# Altium footprint library Dr_lib .PcbLib: 38 footprints (part 2 of 3)
Each footprint in its own frame and in the unit in brackets; x right, y up, seen from the top. Pads: shape width x height; smd on the part's side, far side on the other; paste and mask are expansions set on the pad; w line width, h text height; cw(c..) or ccw(c..) is an arc to the next point about the centre after c.
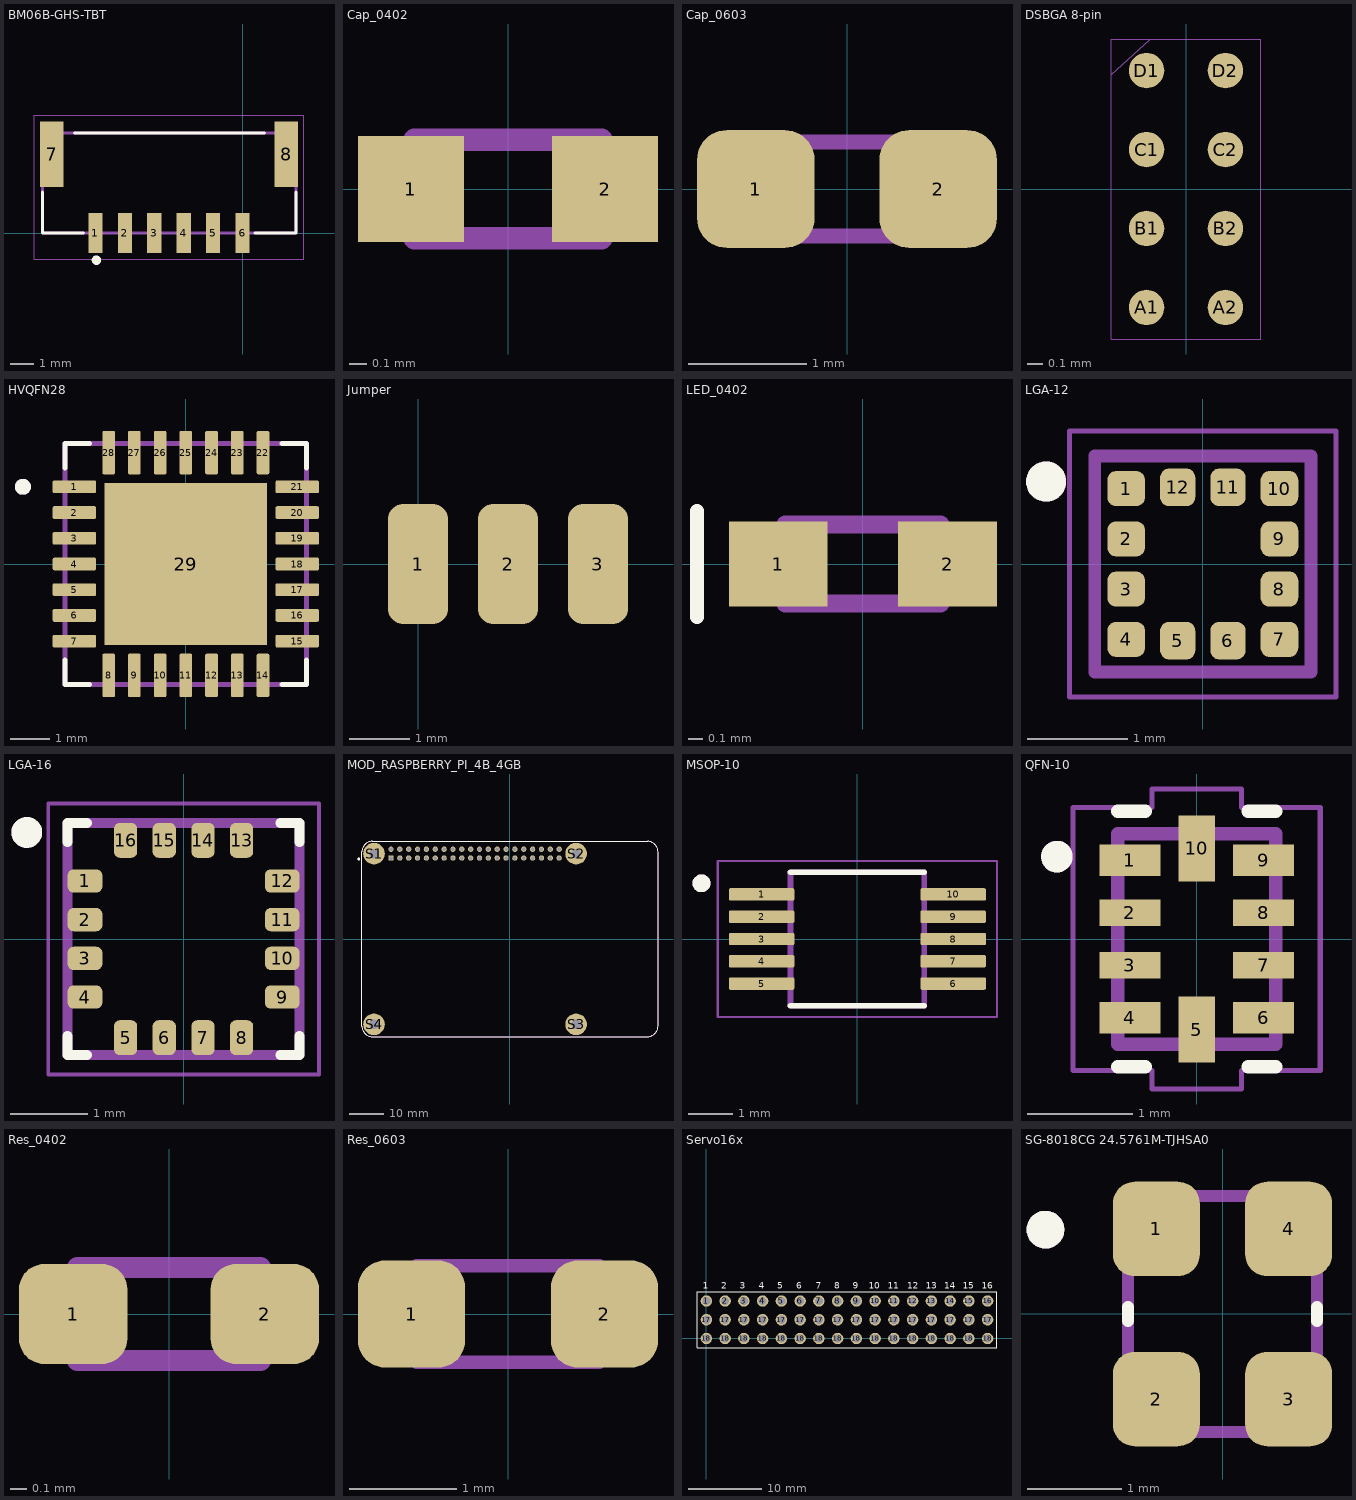
[diagram p1: the footprints below, top view; thin cyan lines are the x and y axes]

## BM06B-GHS-TBT [mm]
pads (8):
  rect 0.6x1.7 smd: 1(-6.25,0) 2(-5,0) 3(-3.75,0) 4(-2.5,0) 5(-1.25,0) 6(0,0)
  rect 1x2.8 smd: 7(-8.1,3.35) 8(1.85,3.35)
Top Overlay:
  circle w0.2: c-6.21,-1.15 r0.1
  lines w0.127: -8.5,1.75 -8.5,0 -6.75,0 ; -7.15,4.25 0.925,4.25 ; 0.525,0 2.275,0 2.275,1.75
Mechanical 13:
  lines w0.127: -8.5,0 -8.5,4.25 2.275,4.25 2.275,0 -8.5,0
Mechanical 15:
  lines w0.05: -8.85,-1.1 2.6,-1.1 2.6,5 -8.85,5 -8.85,-1.1

## Cap_0402 [mm]
pads (2):
  rect 0.6x0.6 smd: 1(-0.55,0) 2(0.55,0)
Mechanical 13:
  lines w0.127: -0.53,-0.28 0.53,-0.28 0.53,0.28 -0.53,0.28 -0.53,-0.28
3D body "GRM155R71E104KE14J.STEP": height 0.55, standoff 0, extent -0.5,-0.25 0.5,0.25

## Cap_0603 [mm]
pads (2):
  rrect50% 1x1 smd mask+0.1: 1(-0.775,0) 2(0.775,0)
Mechanical 13:
  lines w0.127: -0.8,-0.4 0.8,-0.4 0.8,0.4 -0.8,0.4 -0.8,-0.4
3D body "GRM1885C1HR90WA01D.STEP": height 0.9, standoff 0, extent -0.8,-0.4 0.8,0.4

## DSBGA 8-pin [mil]
pads (8):
  round 9 smd: A1(-10,-30) A2(10,-30) B1(-10,-10) B2(10,-10) C1(-10,10) C2(10,10) D1(-10,30) D2(10,30)
Mechanical 13:
  lines w0: -19,29 -9,38 ; -19,-38 -19,38 19,38 19,-38 -19,-38
3D body "TXS0102YZPR--3DModel-STEP-56544.STEP": height 18.5, standoff -1.18, extent -17.48,-37.16 17.49,37.17

## HVQFN28 [mm]
pads (29):
  rrect25% 1.1x0.32 smd: 1(-2.815,1.95) 2(-2.815,1.3) 3(-2.815,0.65) 4(-2.815,0) 5(-2.815,-0.65) 6(-2.815,-1.3) 7(-2.815,-1.95) 15(2.815,-1.95) 16(2.815,-1.3) 17(2.815,-0.65) 18(2.815,0) 19(2.815,0.65) 20(2.815,1.3) 21(2.815,1.95)
  rrect25% 0.32x1.1 smd: 8(-1.95,-2.815) 9(-1.3,-2.815) 10(-0.65,-2.815) 11(0,-2.815) 12(0.65,-2.815) 13(1.3,-2.815) 14(1.95,-2.815) 22(1.95,2.815) 23(1.3,2.815) 24(0.65,2.815) 25(0,2.815) 26(-0.65,2.815) 27(-1.3,2.815) 28(-1.95,2.815)
  rect 4.1x4.1 smd paste-3: 29(0,0)
Top Overlay:
  circle w0.2: c-4.115,1.95 r0.1
  lines w0.127: -3.05,-2.43 -3.05,-3.05 -2.43,-3.05 ; -3.05,2.43 -3.05,3.05 -2.43,3.05 ; 2.43,-3.05 3.05,-3.05 3.05,-2.43 ; 2.43,3.05 3.05,3.05 3.05,2.43
Top Paste:
  region: 1.675,-1.675 0.375,-1.675 0.375,-0.375 1.675,-0.375
  region: -0.375,-1.675 -1.675,-1.675 -1.675,-0.375 -0.375,-0.375
  region: 1.675,0.375 0.375,0.375 0.375,1.675 1.675,1.675
  region: -0.375,0.375 -1.675,0.375 -1.675,1.675 -0.375,1.675
Mechanical 13:
  circle w0.2: c-4.115,1.95 r0.1
  lines w0.127: -3.05,-3.05 -3.05,3.05 3.05,3.05 3.05,-3.05 -3.05,-3.05
3D body "PCA9685BS-118--3DModel-STEP-56544.STEP": height 1, standoff 0, extent -3,-3 3,3

## Jumper [mm]
pads (3):
  rrect50% 1x2 smd: 1(0,0) 2(1.5,0) 3(3,0)

## LED_0402 [mm]
pads (2):
  rect 0.7x0.6 smd: 1(-0.6,0) 2(0.6,0)
Top Overlay:
  lines w0.1: -1.175,-0.375 -1.175,0.375
Mechanical 13:
  lines w0.127: -0.55,-0.28 -0.55,0.28 0.55,0.28 0.55,-0.28 -0.55,-0.28
3D body "APHHS1005LZGCK-V.STEP": height 0.5, standoff 0, extent -0.5,-0.25 0.5,0.25

## LGA-12 [mm]
pads (12):
  rrect50% 0.375x0.35 smd mask+0.05: 1(-0.763,0.75) 2(-0.763,0.25) 3(-0.763,-0.25) 4(-0.763,-0.75) 7(0.763,-0.75) 8(0.763,-0.25) 9(0.763,0.25) 10(0.763,0.75)
  rrect50% 0.35x0.375 smd mask+0.05: 5(-0.25,-0.763) 6(0.25,-0.763) 11(0.25,0.763) 12(-0.25,0.763)
Top Overlay:
  circle w0.2: c-1.56,0.82 r0.1
Mechanical 13:
  circle w0.2: c-1.56,0.82 r0.1
  lines w0.127: -1.075,-1.075 1.075,-1.075 1.075,1.075 -1.075,1.075 -1.075,-1.075
Mechanical 15:
  lines w0.05: -1.325,-1.325 1.325,-1.325 1.325,1.325 -1.325,1.325 -1.325,-1.325
3D body "LGA-12 2x2mm.step": height 0.94, standoff 0, extent -1,-1 1,1

## LGA-16 [mm]
pads (16):
  rrect50% 0.45x0.3 smd mask+0.05: 1(-1.275,0.75) 2(-1.275,0.25) 3(-1.275,-0.25) 4(-1.275,-0.75) 9(1.275,-0.75) 10(1.275,-0.25) 11(1.275,0.25) 12(1.275,0.75)
  rrect50% 0.3x0.45 smd mask+0.05: 5(-0.75,-1.275) 6(-0.25,-1.275) 7(0.25,-1.275) 8(0.75,-1.275) 13(0.75,1.275) 14(0.25,1.275) 15(-0.25,1.275) 16(-0.75,1.275)
Top Overlay:
  circle w0.2: c-2.028,1.378 r0.1
  lines w0.127: -1.5,-1.25 -1.5,-1.5 -1.25,-1.5 ; -1.5,1.25 -1.5,1.5 -1.25,1.5 ; 1.25,-1.5 1.5,-1.5 1.5,-1.25 ; 1.25,1.5 1.5,1.5 1.5,1.25
Mechanical 13:
  circle w0.2: c-2.028,1.378 r0.1
  lines w0.127: -1.5,-1.5 1.5,-1.5 1.5,1.5 -1.5,1.5 -1.5,-1.5
Mechanical 15:
  lines w0.05: -1.75,-1.75 1.75,-1.75 1.75,1.75 -1.75,1.75 -1.75,-1.75
3D body "step_temp.STEP": height 1, standoff 0, extent -1.5,-1.5 1.5,1.5

## MOD_RASPBERRY_PI_4B_4GB [mil]
height 629.92
pads (44):
  rect 60x60 / inner round 60 / far side rect 60x60 hole 40: 1(-1343.7,914.57)
  round 60 hole 40: 2(-1343.7,1014.57) 3(-1243.7,914.57) 4(-1243.7,1014.57) 5(-1143.7,914.57) 6(-1143.7,1014.57) 7(-1043.7,914.57) 8(-1043.7,1014.57) 9(-943.7,914.57) 10(-943.7,1014.57) 11(-843.7,914.57) 12(-843.7,1014.57) 13(-743.7,914.57) 14(-743.7,1014.57) 15(-643.7,914.57) 16(-643.7,1014.57) 17(-543.7,914.57) 18(-543.7,1014.57) 19(-443.7,914.57) 20(-443.7,1014.57) 21(-343.7,914.57) 22(-343.7,1014.57) 23(-243.7,914.57) 24(-243.7,1014.57) 25(-143.7,914.57) 26(-143.7,1014.57) 27(-43.7,914.57) 28(-43.7,1014.57) 29(56.3,914.57) 30(56.3,1014.57) 31(156.3,914.57) 32(156.3,1014.57) 33(256.3,914.57) 34(256.3,1014.57) 35(356.3,914.57) 36(356.3,1014.57) 37(456.3,914.57) 38(456.3,1014.57) 39(556.3,914.57) 40(556.3,1014.57)
  round 244.09 hole 108.27: S1(-1535.43,964.57) S2(748.03,964.57) S3(748.03,-964.57) S4(-1535.43,-964.57)
Top Overlay:
  circle w15.75: c-1708.66,905.51 r7.87
  lines w5: -1673.23,-984.25 ccw(c-1555.12,-984.25) -1555.12,-1102.36 1555.12,-1102.36 ccw(c1555.12,-984.25) 1673.23,-984.25 1673.23,984.25 ccw(c1555.12,984.25) 1555.12,1102.36 -1555.12,1102.36 ccw(c-1555.12,984.25) -1673.23,984.25 -1673.23,-984.25
Mechanical 13:
  circle w15.75: c-1708.66,905.51 r7.87
  lines w5: -1673.23,-984.25 ccw(c-1555.12,-984.25) -1555.12,-1102.36 1555.12,-1102.36 ccw(c1555.12,-984.25) 1673.23,-984.25 1673.23,984.25 ccw(c1555.12,984.25) 1555.12,1102.36 -1555.12,1102.36 ccw(c-1555.12,984.25) -1673.23,984.25 -1673.23,-984.25

## MSOP-10 [mm] "ADS1115"
pads (10):
  rrect25% 1.47x0.28 smd mask+0.05: 1(-2.15,1) 2(-2.15,0.5) 3(-2.15,0) 4(-2.15,-0.5) 5(-2.15,-1) 6(2.15,-1) 7(2.15,-0.5) 8(2.15,0) 9(2.15,0.5) 10(2.15,1)
Top Overlay:
  circle w0.2: c-3.5,1.25 r0.1
  lines w0.127: -1.5,-1.5 1.5,-1.5 ; -1.5,1.5 1.5,1.5
Mechanical 13:
  circle w0.2: c-3.5,1.25 r0.1
  lines w0.127: -1.5,-1.5 1.5,-1.5 1.5,1.5 -1.5,1.5 -1.5,-1.5
Mechanical 15:
  lines w0.05: -3.135,-1.75 3.135,-1.75 3.135,1.75 -3.135,1.75 -3.135,-1.75
3D body "step_temp.STEP": height 1.1, standoff 0, extent -2.45,-1.5 2.45,1.5

## QFN-10 [mm] "ADS1115"
pads (10):
  rect 0.58x0.3 smd paste-0.025: 1(-0.635,0.75) 4(-0.635,-0.75) 6(0.635,-0.75) 9(0.635,0.75)
  rect 0.58x0.25 smd paste-1: 2(-0.635,0.25) 3(-0.635,-0.25) 7(0.635,-0.25) 8(0.635,0.25)
  rect 0.35x0.63 smd paste-0.025: 5(0,-0.86) 10(0,0.86)
Top Overlay:
  circle w0.2: c-1.328,0.783 r0.05
  lines w0.127: -0.75,-1.213 -0.488,-1.213 ; -0.75,1.213 -0.488,1.213 ; 0.488,-1.213 0.75,-1.213 ; 0.488,1.213 0.75,1.213
Top Paste:
  region: -0.37,-0.375 -0.9,-0.375 -0.9,-0.125 -0.37,-0.125
  region: -0.37,0.125 -0.9,0.125 -0.9,0.375 -0.37,0.375
  region: 0.9,-0.375 0.37,-0.375 0.37,-0.125 0.9,-0.125
  region: 0.9,0.125 0.37,0.125 0.37,0.375 0.9,0.375
Mechanical 13:
  circle w0.2: c-1.328,0.783 r0.05
  lines w0.127: -0.75,-1 0.75,-1 0.75,1 -0.75,1 -0.75,-1
Mechanical 15:
  lines w0.05: -1.175,-1.25 -1.175,1.25 -0.425,1.25 -0.425,1.425 0.425,1.425 0.425,1.25 1.175,1.25 1.175,-1.25 0.425,-1.25 0.425,-1.425 -0.425,-1.425 -0.425,-1.25 -1.175,-1.25
3D body "step_temp.STEP": height 0.4, standoff 0, extent -0.75,-1 0.75,1

## Res_0402 [mm]
pads (2):
  rrect50% 0.65x0.6 smd mask+0.05: 1(-0.575,0) 2(0.575,0)
Mechanical 13:
  lines w0.127: -0.55,-0.28 0.55,-0.28 0.55,0.28 -0.55,0.28 -0.55,-0.28
3D body "step_temp.STEP": height 0.37, standoff 0, extent -0.5,-0.25 0.5,0.25

## Res_0603 [mm]
pads (2):
  rrect50% 1x1 smd: 1(-0.9,0) 2(0.9,0)
Mechanical 13:
  lines w0.127: -0.85,-0.45 0.85,-0.45 0.85,0.45 -0.85,0.45 -0.85,-0.45
3D body "CR0603-FX-1000ELF.STEP": height 0.55, standoff 0, extent -0.8,-0.4 0.8,0.4

## Servo16x [mm]
pads (48):
  round 1.55 hole 1.1: 1(0,5.08) 2(2.54,5.08) 3(5.08,5.08) 4(7.62,5.08) 5(10.16,5.08) 6(12.7,5.08) 7(15.24,5.08) 8(17.78,5.08) 9(20.32,5.08) 10(22.86,5.08) 11(25.4,5.08) 12(27.94,5.08) 13(30.48,5.08) 14(33.02,5.08) 15(35.56,5.08) 16(38.1,5.08) 17(0,2.54) 17(2.54,2.54) 17(5.08,2.54) 17(7.62,2.54) 17(10.16,2.54) 17(12.7,2.54) 17(15.24,2.54) 17(17.78,2.54) 17(20.32,2.54) 17(22.86,2.54) 17(25.4,2.54) 17(27.94,2.54) 17(30.48,2.54) 17(33.02,2.54) 17(35.56,2.54) 17(38.1,2.54) 18(0,0) 18(2.54,0) 18(5.08,0) 18(7.62,0) 18(10.16,0) 18(12.7,0) 18(15.24,0) 18(17.78,0) 18(20.32,0) 18(22.86,0) 18(25.4,0) 18(27.94,0) 18(30.48,0) 18(33.02,0) 18(35.56,0) 18(38.1,0)
Top Overlay:
  lines w0.05: -1.27,-1.27 39.37,-1.27 39.37,6.35 -1.27,6.35 -1.27,-1.27
  text "1" at -0.5,6.4 h1.5
  text "2" at 2,6.4 h1.5
  text "3" at 4.5,6.4 h1.5
  text "4" at 7.1,6.4 h1.5
  text "5" at 9.6,6.4 h1.5
  text "6" at 12.2,6.4 h1.5
  text "7" at 14.8,6.4 h1.5
  text "8" at 17.3,6.4 h1.5
  text "9" at 19.8,6.4 h1.5
  text "10" at 22,6.4 h1.5
  text "11" at 24.6,6.4 h1.5
  text "12" at 27.2,6.4 h1.5
  text "13" at 29.7,6.4 h1.5
  text "14" at 32.2,6.4 h1.5
  text "15" at 34.7,6.4 h1.5
  text "16" at 37.3,6.4 h1.5

## SG-8018CG 24.5761M-TJHSA0 [mm]
pads (4):
  rrect50% 0.92x1 smd mask+0.05: 1(-0.7,0.9) 2(-0.7,-0.9) 3(0.7,-0.9) 4(0.7,0.9)
Top Overlay:
  circle w0.2: c-1.873,0.892 r0.1
  lines w0.127: -1,-0.075 -1,0.075 ; 1,-0.075 1,0.075
Mechanical 13:
  circle w0.2: c-1.873,0.892 r0.1
  lines w0.127: -1,-1.25 -1,1.25 1,1.25 1,-1.25 -1,-1.25
3D body "step_temp.STEP": height 0.8, standoff 0, extent -1,-1.25 1,1.25